# Altium footprint library PL5.0.PcbLib: 1 footprints
Each footprint in its own frame and in the unit in brackets; x right, y up, seen from the top. Pads: shape width x height; smd on the part's side, far side on the other; paste and mask are expansions set on the pad; w line width, h text height; cw(c..) or ccw(c..) is an arc to the next point about the centre after c.
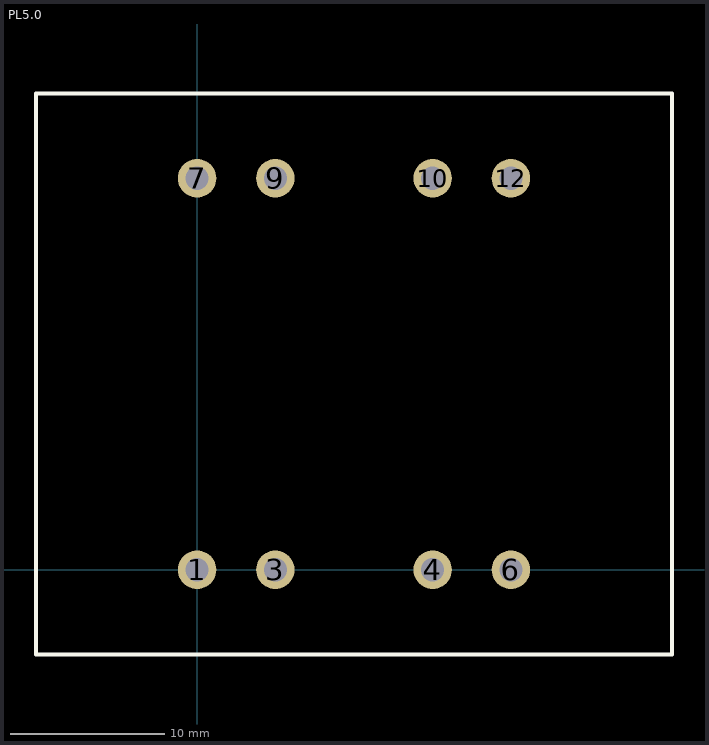
[diagram p0: the footprint, top view; thin cyan lines are the x and y axes]

## PL5.0 [mm] "5 watt dual primary / dual secondary transformer"
height 35.6
pads (8):
  round 2.5 hole 1.5: 1(0,0) 3(5.08,0) 4(15.28,0) 6(20.36,0) 7(0,25.4) 9(5.08,25.4) 10(15.28,25.4) 12(20.36,25.4)
Top Overlay:
  lines w0.254: 30.82,30.885 -10.46,30.885 -10.46,-5.485 30.82,-5.485 30.82,30.886